# Altium footprint library 26DC_20V_V1.3.PcbLib: 20 footprints (part 2 of 2)
Each footprint in its own frame and in the unit in brackets; x right, y up, seen from the top. Pads: shape width x height; smd on the part's side, far side on the other; paste and mask are expansions set on the pad; w line width, h text height; cw(c..) or ccw(c..) is an arc to the next point about the centre after c.
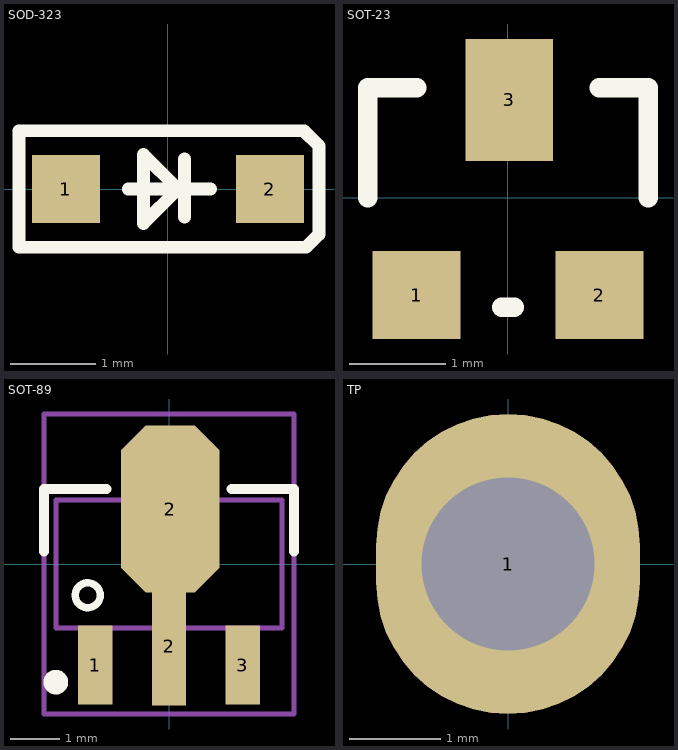
[diagram p1: the footprints below, top view; thin cyan lines are the x and y axes]

## SOD-323 [mm]
height 1.4
pads (2):
  rect 0.8x0.8 smd: 1(-1.2,0) 2(1.2,0)
Top Overlay:
  lines w0.152: -0.467,0 0.499,0 ; 0.194,-0.33 0.194,0.356 ; -1.753,-0.686 -1.753,0.686 1.6,0.686 1.778,0.508 1.778,-0.533 1.626,-0.686 -1.753,-0.686 ; -0.289,-0.406 0.118,0 -0.289,0.406 -0.289,-0.406
3D body "User Library-SOD323.STEP": height 1, standoff 0.01, extent -1.245,-0.635 1.255,0.615

## SOT-23 [mil]
height 68.9
pads (3):
  rect 36x36 smd: 1(-37.5,-40) 2(37.5,-40)
  rect 36x50 smd: 3(0.5,40)
Top Overlay:
  lines w8: -57.5,0 -57.5,45 -37.5,45 ; -2.5,-45 2.5,-45 ; 37.5,45 57.5,45 57.5,0
3D body "SOT23-3.STEP": height 41.34, standoff 0, extent -59.07,-47.27 59.04,47.22

## SOT-89 [mm] "4.6x4.3x1.6mm(长宽高)"
height 1.6
pads (4):
  rect 0.7x1.6 smd: 1(-1.5,-2.054) 3(1.5,-2.054)
  rect 0.7x2.4 smd: 2(0,-1.676)
  oct 2x3.4 smd: 2(0.025,1.118)
Top Overlay:
  circle w0.15: c-1.651,-0.635 r0.254
  circle w0.25: c-2.3,-2.4 r0.125
  lines w0.2: -2.54,0.254 -2.54,1.524 -1.27,1.524 ; 1.27,1.524 2.54,1.524 2.54,0.254
Mechanical 13:
  circle w0.1: c-1.651,-0.635 r0.25
  lines w0.1: -2.3,-1.3 -2.3,1.3 2.3,1.3 2.3,-1.3 -2.3,-1.3
Mechanical 15:
  circle w0.05: c0,0 r0.35
  lines w0.05: -0.5,0 0.5,0 ; 0,-0.5 0,0.5
  lines w0.1: -2.54,-3.048 2.54,-3.048 2.54,3.048 -2.54,3.048 -2.54,-3.048
3D body "SOT89.STEP": height 1.6, standoff 0.04, extent -2.3,-2.4 2.3,1.9

## TP [mm]
height 1.5
pads (1):
  oval 2.9x3.3 hole 1.9: 1(0,0)